# EAGLE library part MCP4725 (library sFPI)
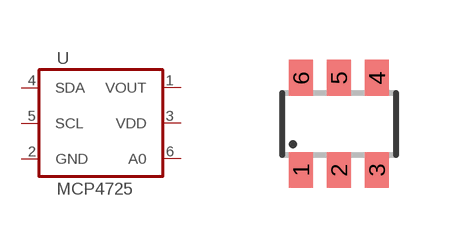
[diagram p275: symbol with the pads of SOT23-6; footprint SOT23-6]

Designator prefix -

## MCP4725-1  [SOT23-6]
1  VOUT  out
2  GND  in
3  VDD  in
4  SDA  in
5  SCL  in
6  A0  in

## Footprint SOT23-6 (pad centres in mm)
Small Outline Transistor 6 lead
smd 0.6 x 0.9: 1 -0.95,-1.15; 2 0,-1.15; 3 0.95,-1.15; 4 0.95,1.15; 5 0,1.15; 6 -0.95,1.15